# EAGLE library part SP1001-05 (library ProjectOnly6)
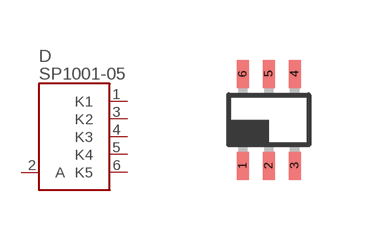
[diagram p4: symbol with the pads of SC70-6; footprint SC70-6]

Designator prefix D

## SP1001-05  [SC70-6]
1  K1
2  A
3  K2
4  K3
5  K4
6  K5

## Footprint SC70-6 (pad centres in mm)
smd 0.3 x 0.7: 1 -0.65,-1.15; 2 0,-1.15; 3 0.65,-1.15; 4 0.65,1.15; 5 0,1.15; 6 -0.65,1.15